# Altium schematic symbol library Resistor_2Pin.Schlib: 1 symbol
Pins are listed as number, name and electrical type; pins without a type are passive.

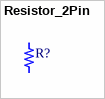
[diagram p0: symbol Resistor_2Pin]

## Resistor_2Pin
designator R?
Resistor
pins: 1, 2